# Altium footprint library 4-Port_USB_HUB_PCBLib.PcbLib: 11 footprints
Each footprint in its own frame and in the unit in brackets; x right, y up, seen from the top. Pads: shape width x height; smd on the part's side, far side on the other; paste and mask are expansions set on the pad; w line width, h text height; cw(c..) or ccw(c..) is an arc to the next point about the centre after c.
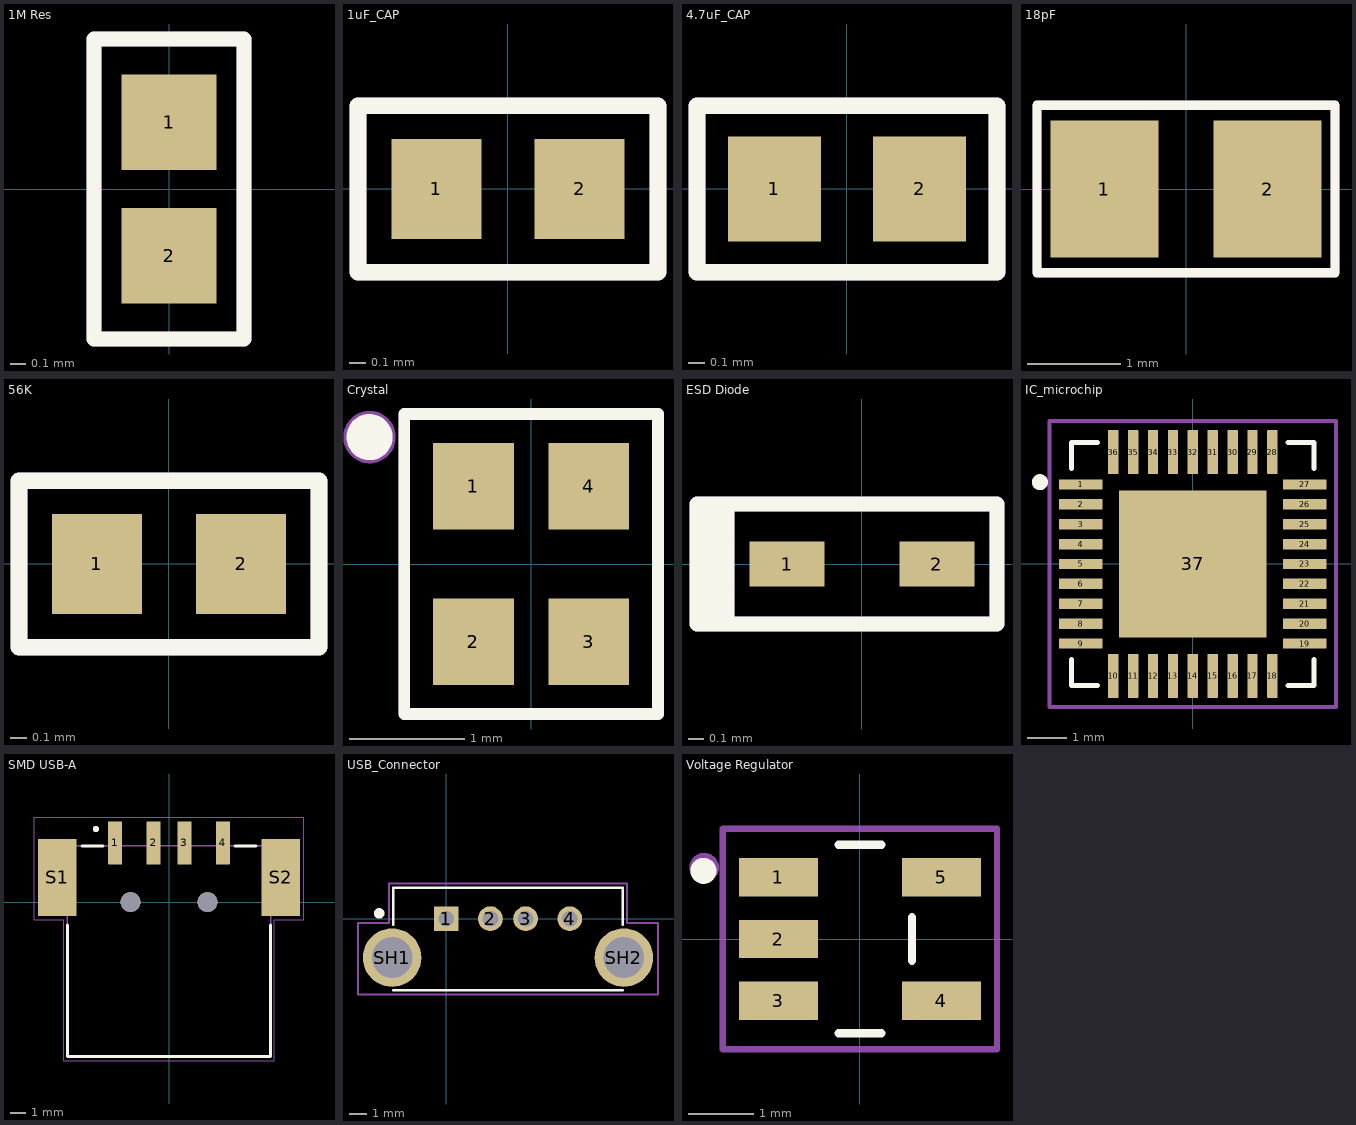
[diagram p0: the footprints below, top view; thin cyan lines are the x and y axes]

## 1M Res [mil]
pads (2):
  rect 25x25 smd mask+2: 1(0,17.5) 2(0,-17.5)
Top Overlay:
  lines w3.94: -19.68,-39.37 -19.68,39.37 19.68,39.37 19.68,-39.37 -19.68,-39.37
For Assembly:
  lines w3.94: -19.68,-39.37 -19.68,39.37 19.68,39.37 19.68,-39.37 -19.68,-39.37
  text "'.Designator'" at 5.88,-35.43 h31.5
3D body "RC0402JR-0756KL.STEP": height 15.75, standoff 0, extent -9.85,-19.68 9.84,19.69

## 1uF_CAP [mm]
pads (2):
  rect 0.54x0.6 smd mask+0.051: 1(-0.43,0) 2(0.43,0)
Top Overlay:
  lines w0.1: -0.9,-0.5 -0.9,0.5 0.9,0.5 0.9,-0.5 -0.9,-0.5
For Assembly:
  lines w0.1: -0.9,-0.5 -0.9,0.5 0.9,0.5 0.9,-0.5 -0.9,-0.5
  text "'.Designator'" at -0.7,-0.249 h0.8
3D body "c0402c105k9pactu.stp": height 0.55, standoff 0, extent -0.525,-0.3 0.525,0.25

## 4.7uF_CAP [mm]
pads (2):
  rect 0.56x0.63 smd mask+0.051: 1(-0.435,0) 2(0.435,0)
Top Overlay:
  lines w0.1: -0.9,-0.5 0.9,-0.5 0.9,0.5 -0.9,0.5 -0.9,-0.5
For Assembly:
  lines w0.1: -0.9,-0.5 -0.9,0.5 0.9,0.5 0.9,-0.5 -0.9,-0.5
  text "'.Designator'" at -0.7,-0.149 h0.8
3D body "step_temp.STEP": height 0.6, standoff 0, extent -0.5,-0.25 0.5,0.25

## 18pF [mm]
pads (2):
  rect 1.16x1.47 smd mask+0.051: 1(-0.875,0) 2(0.875,0)
Top Overlay:
  lines w0.1: -1.6,-0.9 -1.6,0.9 1.6,0.9 1.6,-0.9 -1.6,-0.9
For Assembly:
  lines w0.1: -1.6,-0.9 -1.6,0.9 1.6,0.9 1.6,-0.9 -1.6,-0.9
  text "'.Designator'" at -1.3,-0.249 h0.8
3D body "c0805c180j5gactu.stp": height 0.92, standoff 0.04, extent -1,-0.7 1.2,0.75

## 56K [mm]
pads (2):
  rect 0.54x0.6 smd mask+0.051: 1(-0.432,0) 2(0.432,0)
Top Overlay:
  lines w0.1: -0.9,-0.5 -0.9,0.5 0.9,0.5 0.9,-0.5 -0.9,-0.5
For Assembly:
  lines w0.1: -0.9,-0.5 -0.9,0.5 0.9,0.5 0.9,-0.5 -0.9,-0.5
  text "'.Designator'" at -0.7,-0.249 h0.8
3D body "step_temp.STEP": height 0.4, standoff 0, extent -0.5,-0.25 0.5,0.25

## Crystal [mm]
pads (4):
  rect 0.7x0.75 smd mask+0.051: 1(-0.5,0.675) 2(-0.5,-0.675) 3(0.5,-0.675) 4(0.5,0.675)
Top Overlay:
  circle w0.2: c-1.4,1.1 r0.1
  lines w0.1: -1.1,-1.3 1.1,-1.3 1.1,1.3 -1.1,1.3 -1.1,-1.3
For Assembly:
  circle w0.254: c-1.4,1.1 r0.1
  lines w0.1: -1.1,-1.3 1.1,-1.3 1.1,1.3 -1.1,1.3 -1.1,-1.3
  text "'.Designator'" at -0.9,-0.249 h0.8
3D body "step_temp.STEP": height 0.7, standoff 0, extent -0.8,-1 0.8,1

## ESD Diode [mm]
pads (2):
  rect 0.5x0.3 smd mask+0.051: 1(-0.5,0) 2(0.5,0)
Top Overlay:
  rectangle: -1.1,-0.4 -0.9,0.4
  lines w0.1: -0.9,-0.4 -1.1,-0.4 -1.1,0.4 -0.9,0.4 ; -0.9,-0.4 -0.9,0.4 ; -0.9,-0.4 0.9,-0.4 0.9,0.4 -0.9,0.4
For Assembly:
  rectangle: -1.1,-0.4 -0.9,0.4
  lines w0.1: -0.9,-0.4 0.9,-0.4 0.9,0.4 -0.9,0.4 ; -0.9,-0.4 -0.9,0.4 ; -0.9,-0.4 -1.1,-0.4 -1.1,0.4 -0.9,0.4
  text "'.Designator'" at -0.9,-0.249 h0.8
3D body "ESD9B3.3ST5G.STEP": height 0.4, standoff 0, extent -0.5,-0.3 0.5,0.3

## IC_microchip [mm]
pads (37):
  rrect7% 1.1x0.26 smd mask+0.051: 1(-2.815,2) 2(-2.815,1.5) 3(-2.815,1) 4(-2.815,0.5) 5(-2.815,0) 6(-2.815,-0.5) 7(-2.815,-1) 8(-2.815,-1.5) 9(-2.815,-2) 19(2.815,-2) 20(2.815,-1.5) 21(2.815,-1) 22(2.815,-0.5) 23(2.815,0) 24(2.815,0.5) 25(2.815,1) 26(2.815,1.5) 27(2.815,2)
  rrect7% 0.26x1.1 smd mask+0.051: 10(-2,-2.815) 11(-1.5,-2.815) 12(-1,-2.815) 13(-0.5,-2.815) 14(0,-2.815) 15(0.5,-2.815) 16(1,-2.815) 17(1.5,-2.815) 18(2,-2.815) 28(2,2.815) 29(1.5,2.815) 30(1,2.815) 31(0.5,2.815) 32(0,2.815) 33(-0.5,2.815) 34(-1,2.815) 35(-1.5,2.815) 36(-2,2.815)
  rect 3.7x3.7 smd paste-3 mask+0.051: 37(0,0)
Top Overlay:
  circle w0.2: c-3.843,2.058 r0.1
  lines w0.127: -3.05,-2.4 -3.05,-3.05 -2.4,-3.05 ; -3.05,2.4 -3.05,3.05 -2.4,3.05 ; 2.4,-3.05 3.05,-3.05 3.05,-2.4 ; 2.4,3.05 3.05,3.05 3.05,2.4
Top Paste:
  region: -0.18,-1.49 -1.49,-1.49 -1.49,-0.18 -0.18,-0.18
  region: 1.49,-1.49 0.18,-1.49 0.18,-0.18 1.49,-0.18
  region: 1.49,0.18 0.18,0.18 0.18,1.49 1.49,1.49
  region: -0.18,0.18 -1.49,0.18 -1.49,1.49 -0.18,1.49
For Assembly:
  lines w0.1: -3.6,-3.6 -3.6,3.6 3.6,3.6 3.6,-3.6 -3.6,-3.6
  text "'.Designator'" at -2,-0.149 h0.8
3D body "IC_Microchip_USB2514B-I-M2_eec.STEP": height 1, standoff 0, extent -3,-3 3,3

## SMD USB-A [mm]
pads (8):
  rrect4% 0.9x2.8 smd: 1(-3.5,3.85) 2(-1,3.85) 3(1,3.85) 4(3.5,3.85)
  rect 2.5x5 smd: S1(-7.25,1.6) S2(7.25,1.6)
  round 1.3 hole 1.3 unplated: ""(-2.5,0) ""(2.5,0)
Top Overlay:
  circle w0.2: c-4.75,4.75 r0.1
  lines w0.2: -6.6,-1.5 -6.6,-10.05 6.6,-10.05 6.6,-1.5 ; -5.65,3.65 -4.3,3.65 ; 4.3,3.65 5.65,3.65
Mechanical 13:
  circle w0.2: c-4.75,4.75 r0.1
  lines w0.1: -6.6,-10.05 6.6,-10.05 6.6,3.65 -6.6,3.65 -6.6,-10.05
  text "PCB EDGE" at -3.5,-9.5 h1.02
Mechanical 15:
  lines w0.05: -8.75,-1.15 -6.85,-1.15 -6.85,-10.3 6.85,-10.3 6.85,-1.15 8.75,-1.15 8.75,5.5 -8.75,5.5 -8.75,-1.15
3D body "USB-A-S-S-B-SM2.stp": height 7.8, standoff -1.1, extent -8.2,-10.15 8.2,4.85

## USB_Connector [mm]
pads (6):
  rect 1.408x1.408 hole 0.9: 1(0,0)
  round 1.408 hole 0.9: 2(2.5,0) 3(4.5,0) 4(7,0)
  round 3.316 hole 2.3: SH1(-3.07,-2.2) SH2(10.07,-2.2)
Top Overlay:
  circle w0.3: c-3.8,0.3 r0.15
  lines w0.127: -3,-4.05 10,-4.05 ; -3,-0.35 -3,1.75 10,1.75 10,-0.35
For Assembly:
  lines w0.1: -5,-4.3 12,-4.3 12,-0.25 10.25,-0.25 10.25,2 -3.25,2 -3.25,-0.25 -5,-0.25 -5,-4.3
  text "'.Designator'" at 1.1,-2.049 h0.8
3D body "uj2-av-w4-th.stp": height 15, standoff -2.95, extent -4.002,-5 11.002,2.5

## Voltage Regulator [mm]
pads (5):
  rect 1.21x0.59 smd: 1(-1.255,0.95) 2(-1.255,0) 3(-1.255,-0.95) 4(1.255,-0.95) 5(1.255,0.95)
Top Overlay:
  circle w0.2: c-2.41,1.05 r0.1
  lines w0.127: -0.33,-1.45 0.33,-1.45 ; -0.33,1.45 0.33,1.45 ; 0.8,-0.335 0.8,0.335
For Assembly:
  circle w0.254: c-2.4,1.1 r0.1
  lines w0.1: -2.11,-1.7 -2.11,1.7 2.11,1.7 2.11,-1.7 -2.11,-1.7
  text "'.Designator'" at -0.8,-0.149 h0.8
3D body "mic5504-3_3ym5-tr.stp": height 1.18, standoff 0.01, extent -1.4,-1.5 1.4,1.488